# Altium schematic symbol library My_Schematic_Lib.SchLib: 50 symbols
Pins are listed as number, name and electrical type; pins without a type are passive.

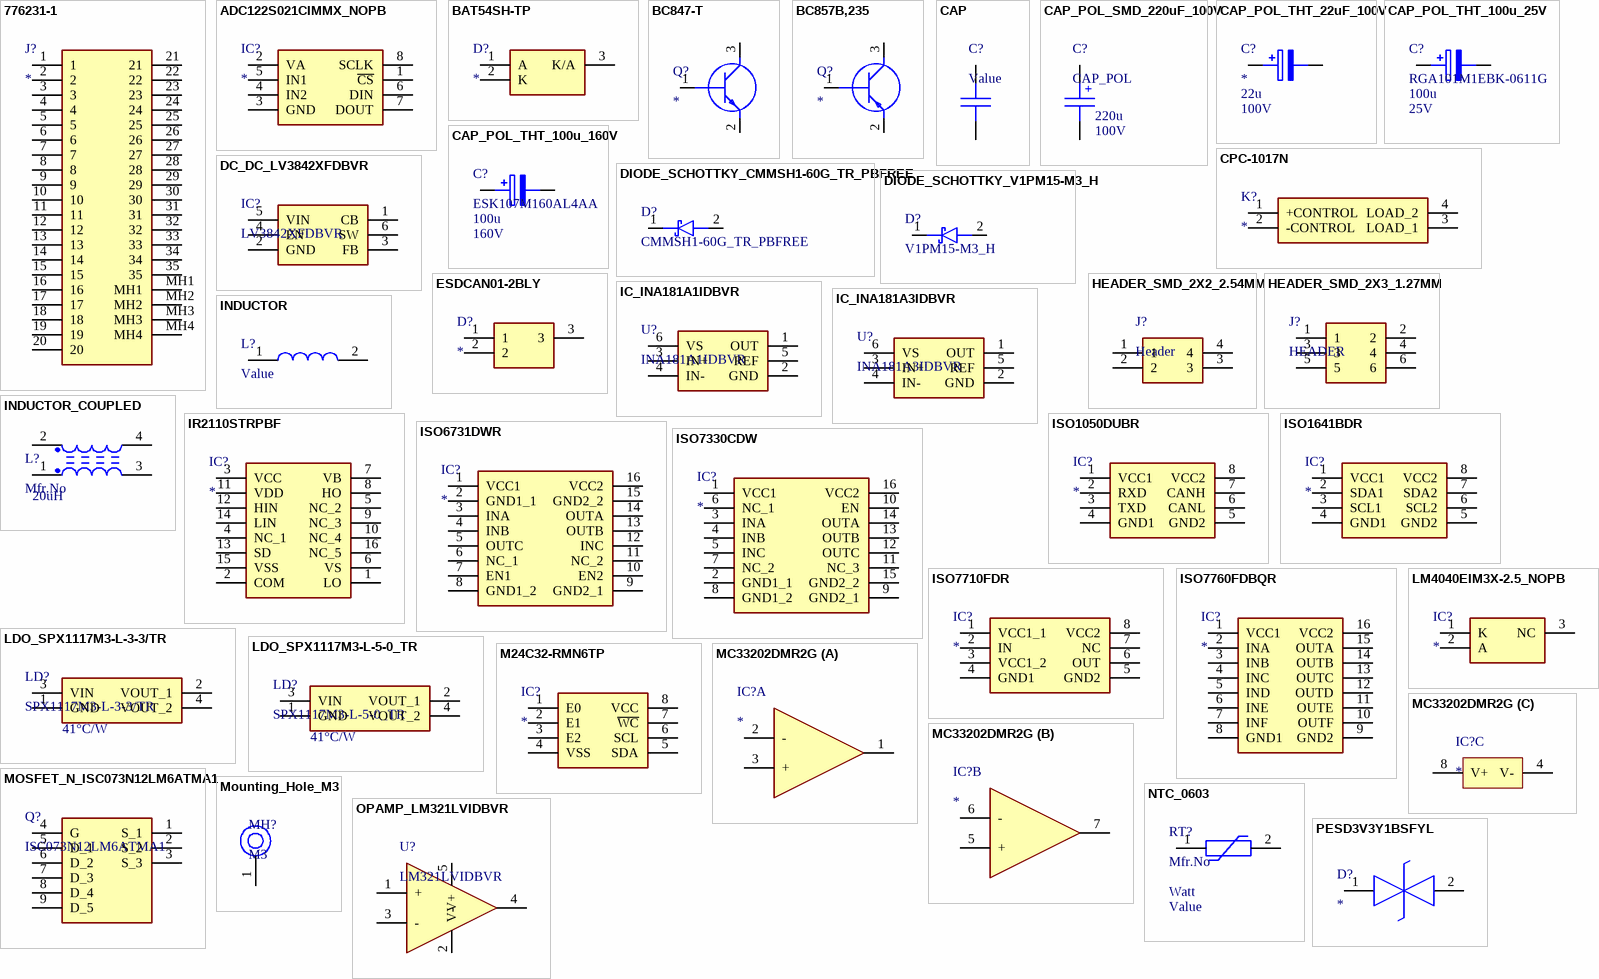
[diagram p0: symbols 776231-1 to PESD3V3Y1BSFYL]

## 776231-1
designator J?
Connector; Manufacturer_Name: TE Connectivity; Manufacturer_Part_Number: 776231-1; Datasheet Link: https://www.te.com/commerce/DocumentDelivery/DDEController?Action=srchrtrv&DocNm=1-1773979-2&DocType=Data%20Sheet&DocLang=English&PartCntxt=776231-1&DocFormat=pdf; Height: 34.25mm; Mouser Part Number: 571-776231-1; Mouser Price/Stock: https://www.mouser.co.uk/ProductDetail/TE-Connectivity/776231-1?qs=YqNA2qefETAQAJm2ankyIA%3D%3D; Arrow Part Number: 776231-1; Arrow Price/Stock: https://www.arrow.com/en/products/776231-1/te-connectivity?region=nac
footprint 7762311
pins: 1, 2, 3, 4, 5, 6, 7, 8, 9, 10, 11, 12, 13, 14, 15, 16, 17, 18, 19, 20, 21, 22, 23, 24, 25, 26, 27, 28, 29, 30, 31, 32, 33, 34, 35, MH1, MH2, MH3, MH4

## ADC122S021CIMMX_NOPB
designator IC?
Integrated Circuit; Manufacturer_Name: Texas Instruments; Manufacturer_Part_Number: ADC122S021CIMMX/NOPB; Datasheet Link: http://www.ti.com/lit/gpn/ADC122S021; Height: 1.1mm; Mouser Part Number: 926-A122S021CIMMXNPB; Mouser Price/Stock: https://www.mouser.co.uk/ProductDetail/Texas-Instruments/ADC122S021CIMMX-NOPB/?qs=7X5t%252BdzoRHB2bC7Teu8H3A%3D%3D; Arrow Part Number: ADC122S021CIMMX/NOPB; Arrow Price/Stock: https://www.arrow.com/en/products/adc122s021cimmxnopb/texas-instruments
footprint SOP65P490X110-8N
pins: 1 ~{CS}, 2 VA, 3 GND, 4 IN2, 5 IN1, 6 DIN, 7 DOUT, 8 SCLK

## BAT54SH-TP
designator D?
Schottky Diode; Manufacturer_Name: MCC; Manufacturer_Part_Number: BAT54SH-TP; Datasheet Link: https://www.mccsemi.com/pdf/Products/BAT54H-BAT54SH(SOT-23).pdf; Height: 1.25mm
footprint SOT95P237X125-3N
pins: 1 A, 2 K, 3 K/A

## BC847-T
designator Q?
Transistor BJT NPN; Manufacturer_Name: Rectron; Manufacturer_Part_Number: BC847-T; Datasheet Link: https://www.rectron.com/public/product_datasheets/bc846-bc848.pdf; Height: 1.15mm; Mouser Part Number: 583-BC847; Mouser Price/Stock: https://www.mouser.co.uk/ProductDetail/Rectron/BC847-T?qs=88VD4TDCwKCxjiqyDdAfrw%3D%3D
footprint SOT95P240X115-3N
pins: 1 B, 2 E, 3 C

## BC857B,235
designator Q?
Transistor BJT PNP; Manufacturer_Name: Nexperia; Manufacturer_Part_Number: BC857B,235; Datasheet Link: https://assets.nexperia.com/documents/data-sheet/BC856_BC857_BC858.pdf; Height: 1.1mm; Mouser Part Number: 771-BC857B235; Mouser Price/Stock: https://www.mouser.co.uk/ProductDetail/Nexperia/BC857B235?qs=me8TqzrmIYWSnmooO7Bp2g%3D%3D; Arrow Part Number: BC857B,235; Arrow Price/Stock: https://www.arrow.com/en/products/bc857b235/nexperia?region=europe
footprint SOT95P230X110-3N
pins: 1 B, 2 E, 3 C

## CAP
designator C?, comment Value
SMD Chip Capacitor
footprint C_0201
footprint C_0402
footprint C_0603
footprint C_0805
footprint C_1206
footprint C_1210
footprint C_1812
pins: 1, 2

## CAP_POL_SMD_220uF_100V
designator C?, comment CAP_POL  value 220u  Voltage: 100V
Polarized Capacitor; ComponentLink1Description: Link; ComponentLink1URL: https://www.mouser.com.tr/ProductDetail/Panasonic/ECA-2AM221B?qs=hnUcNC2tU0psbcmlzR8oQA%3D%3D
footprint C_THT_12.5X20 (Capacitor THT, P 5.00mm, D 12m,)
pins: 1, 2
text: +

## CAP_POL_THT_22uF_100V
designator C?  value 22u  Voltage: 100V
Polarized Capacitor; ComponentLink1Description: New link; ComponentLink1URL: https://www.mouser.com.tr/ProductDetail/KEMET/ESK226M100AE3AA?qs=1mbolxNpo8eF6Js%2FQEFiSw%3D%3D
footprint C_THT_6.3X11X2.5
pins: 1 +, 2 -

## CAP_POL_THT_100u_25V
designator C?, comment RGA101M1EBK-0611G  value 100u  Voltage: 25V
Aluminium Electrolytic Capacitors - Radial Leaded 25V 100uF 105C 6.3x11mm; ComponentLink1Description: Link; ComponentLink1URL: https://www.mouser.com.tr/ProductDetail/Lelon/RGA101M1EBK-0611G?qs=sGAEpiMZZMvwFf0viD3Y3ZPeeWspSkPKwMATVGPRbS8%3D
footprint C_THT_6.3X11X2.5
pins: 1 +, 2 -

## CAP_POL_THT_100u_160V
designator C?, comment ESK107M160AL4AA  value 100u  Voltage: 160V
Capacitor Polarised; ComponentLink1Description: New link; ComponentLink1URL: https://www.mouser.com.tr/ProductDetail/KEMET/ESK107M160AL4AA?qs=gt1LBUVyoHn74e7F9%2F5Ihw%3D%3D
footprint C_THT_13X25X5
pins: 1 +, 2 -

## CPC-1017N
designator K?
Relay or Contactor; Manufacturer_Name: LITTELFUSE; Manufacturer_Part_Number: CPC-1017N; Datasheet Link: http://www.ixysic.com/home/pdfs.nsf/www/CPC1017N.pdf/$file/CPC1017N.pdf; Height: 2.055mm
footprint SOP254P610X206-4N
pins: 1 +CONTROL, 2 -CONTROL, 3 LOAD_1, 4 LOAD_2

## DC_DC_LV3842XFDBVR
designator IC?, comment LV3842XFDBVR
Switching Voltage Regulators 4-V to 36-V 600-mA synchronous step-dow (FPWM)
footprint SOT23-6
pins: 1 CB (power), 2 GND (power), 3 FB, 4 EN, 5 VIN (power), 6 SW (power)

## DIODE_SCHOTTKY_CMMSH1-60G_TR_PBFREE
designator D?, comment CMMSH1-60G_TR_PBFREE
Schottky Diodes & Rectifiers; Vrm: 60V; If: 1A; Vf: 0.85A; ComponentLink1Description: New link; ComponentLink1URL: https://www.mouser.com.tr/ProductDetail/Central-Semiconductor/CMMSH1-60G-TR-PBFREE?qs=u16ybLDytRaqwQ9Jtbd3vg%3D%3D
footprint SOD-123-2
pins: 1 K, 2 A

## DIODE_SCHOTTKY_V1PM15-M3_H
designator D?, comment V1PM15-M3_H
Schottky Diode, 150V, 1A, Vf: 1.13V; Vf: 1.3V; ComponentLink1Description: New link; ComponentLink1URL: https://www.mouser.com.tr/ProductDetail/Vishay-General-Semiconductor/V1PM15-M3-H?qs=%252BdQmOuGyFcHNPmRG94B76g%3D%3D; Vrm: 150V; If: 1A
footprint DO-219AD-2
pins: 1 K, 2 A

## ESDCAN01-2BLY
designator D?
TVS Diode (Bi-directional); Manufacturer_Name: STMicroelectronics; Manufacturer_Part_Number: ESDCAN01-2BLY; Datasheet Link: https://componentsearchengine.com/Datasheets/2/ESDCAN01-2BLY.pdf; Height: 1.25mm; Mouser Part Number: 511-ESDCAN01-2BLY; Mouser Price/Stock: https://www.mouser.co.uk/ProductDetail/STMicroelectronics/ESDCAN01-2BLY?qs=Ok1pvOkw6%2FpNzC2RQnWwPA%3D%3D; Arrow Part Number: ESDCAN01-2BLY; Arrow Price/Stock: https://www.arrow.com/en/products/esdcan01-2bly/stmicroelectronics?region=nac
footprint SOT95P255X125-3N
pins: 1, 2, 3

## HEADER_SMD_2X2_2.54MM
designator J?, comment Header
footprint HEADER_MALE_SMD_2X2_2.54MM
footprint HEADER_FEMALE_SMD_2X2_2.54MM
pins: 1, 2, 3, 4

## HEADER_SMD_2X3_1.27MM
designator J?, comment HEADER
footprint HEADER_FEMALE_SMD_2X3_1.27MM
footprint HEADER_MALE_2X3_1.27MM
pins: 1, 2, 3, 4, 5, 6

## IC_INA181A1IDBVR
designator U?, comment INA181A1IDBVR
Current Sense Amplifiers, Vos: 100uV, Gain: 20V/V; ComponentLink1Description: New link; ComponentLink1URL: https://www.mouser.com.tr/ProductDetail/Texas-Instruments/INA181A1IDBVR?qs=5aG0NVq1C4wLgDhUNMFt2A%3D%3D
footprint SOT23-6
pins: 1 OUT, 2 GND (power), 3 IN+, 4 IN-, 5 REF, 6 VS (power)

## IC_INA181A3IDBVR
designator U?, comment INA181A3IDBVR
Current Sense Amplifiers, Vos: 100uV, Gain: 100V/V; ComponentLink1Description: New link; ComponentLink1URL: https://www.mouser.com.tr/ProductDetail/Texas-Instruments/INA181A3IDBVR?qs=5aG0NVq1C4xG8aOdRB7o5A%3D%3D
footprint SOT23-6
pins: 1 OUT, 2 GND (power), 3 IN+, 4 IN-, 5 REF, 6 VS (power)

## INDUCTOR
designator L?, comment Value
Inductor
footprint IND_5x5x4.5
pins: 1, 2

## INDUCTOR_COUPLED
designator L?, comment Mfr.No  Inductance: 20uH
Couıpled Inductor; Saturation Current: 1.24A; Max Current: 2.47A; Parallel Inductance: 10u; Seriers Inductance: 39.60u; ComponentLink1Description: New link; ComponentLink1URL: https://eu.mouser.com/ProductDetail/Bourns/SRF0703-100M?qs=Q2Pzc27CV9vIhByhmwt1KA%3D%3D
pins: 1, 2, 3, 4

## IR2110STRPBF
designator IC?
Integrated Circuit; Manufacturer_Name: Infineon; Manufacturer_Part_Number: IR2110STRPBF; Datasheet Link: https://www.infineon.com/cms/en/product/power/gate-driver-ics/?; Height: 2.65mm; Mouser Part Number: 942-IR2110STRPBF; Mouser Price/Stock: https://www.mouser.co.uk/ProductDetail/Infineon-Technologies/IR2110STRPBF?qs=2r01AXMCG3P4pNuJUqFzxg%3D%3D; Arrow Part Number: IR2110STRPBF; Arrow Price/Stock: https://www.arrow.com/en/products/ir2110strpbf/infineon-technologies-ag?utm_currency=USD&region=nac
footprint SOIC127P1032X265-16N
pins: 1 LO, 2 COM, 3 VCC, 4 NC_1, 5 NC_2, 6 VS, 7 VB, 8 HO, 9 NC_3, 10 NC_4, 11 VDD, 12 HIN, 13 SD, 14 LIN, 15 VSS, 16 NC_5

## ISO1050DUBR
designator IC?
Integrated Circuit; Manufacturer_Name: Texas Instruments; Manufacturer_Part_Number: ISO1050DUBR; Datasheet Link: http://www.ti.com/lit/ds/symlink/iso1050.pdf; Height: 4.85mm; Mouser Part Number: 595-ISO1050DUBR; Mouser Price/Stock: https://www.mouser.co.uk/ProductDetail/Texas-Instruments/ISO1050DUBR?qs=IK5e5L0zOXhhp9hdAolE%252BA%3D%3D; Arrow Part Number: ISO1050DUBR; Arrow Price/Stock: https://www.arrow.com/en/products/iso1050dubr/texas-instruments?region=europe
footprint SOP254P1040X485-8N
pins: 1 VCC1, 2 RXD, 3 TXD, 4 GND1, 5 GND2, 6 CANL, 7 CANH, 8 VCC2

## ISO1641BDR
designator IC?
Integrated Circuit; Manufacturer_Name: Texas Instruments; Manufacturer_Part_Number: ISO1641BDR; Datasheet Link: https://www.ti.com/lit/ds/symlink/iso1641.pdf?ts=1621351593430&ref_url=https%253A%252F%252Fwww.ti.com%252Fisolation%252Fisolated-interfaces%252Fi2c%252Fproducts.html; Height: 1.75mm; Mouser Part Number: 595-ISO1641BDR; Mouser Price/Stock: https://www.mouser.co.uk/ProductDetail/Texas-Instruments/ISO1641BDR?qs=TuK3vfAjtkURaauWK%2F5e2g%3D%3D
footprint SOIC127P600X175-8N
pins: 1 VCC1, 2 SDA1, 3 SCL1, 4 GND1, 5 GND2, 6 SCL2, 7 SDA2, 8 VCC2

## ISO6731DWR
designator IC?
Integrated Circuit; Manufacturer_Name: Texas Instruments; Manufacturer_Part_Number: ISO6731DWR; Datasheet Link: https://www.ti.com/lit/ds/symlink/iso6731.pdf?ts=1623477624400&ref_url=https%253A%252F%252Fwww.ti.com%252Fstore%252Fti%252Fen%252Fp%252Fproduct%252F%253Fp%253DISO6731DWR%2526keyMatch%253DISO6731DWR%2526tisearch%253Dsearch-everything%2526usecase%253DOPN; Height: 2.65mm; Mouser Part Number: 595-ISO6731DWR; Mouser Price/Stock: https://www.mouser.co.uk/ProductDetail/Texas-Instruments/ISO6731DWR?qs=iLbezkQI%252Bsg6BfGQOcJxyQ%3D%3D
footprint SOIC127P1030X265-16N
pins: 1 VCC1, 2 GND1_1, 3 INA, 4 INB, 5 OUTC, 6 NC_1, 7 EN1, 8 GND1_2, 9 GND2_1, 10 EN2, 11 NC_2, 12 INC, 13 OUTB, 14 OUTA, 15 GND2_2, 16 VCC2

## ISO7330CDW
designator IC?
Integrated Circuit; Manufacturer_Name: Texas Instruments; Manufacturer_Part_Number: ISO7330CDW; Datasheet Link: http://www.ti.com/lit/gpn/iso7330c; Height: 2.65mm; Mouser Part Number: 595-ISO7330CDW; Mouser Price/Stock: https://www.mouser.co.uk/ProductDetail/Texas-Instruments/ISO7330CDW/?qs=OfeFRKQgECgkB7bvj%252B895A%3D%3D; Arrow Part Number: ISO7330CDW; Arrow Price/Stock: https://www.arrow.com/en/products/iso7330cdw/texas-instruments
footprint SOIC127P1030X265-16N
pins: 1 VCC1, 2 GND1_1, 3 INA, 4 INB, 5 INC, 6 NC_1, 7 NC_2, 8 GND1_2, 9 GND2_1, 10 EN, 11 NC_3, 12 OUTC, 13 OUTB, 14 OUTA, 15 GND2_2, 16 VCC2

## ISO7710FDR
designator IC?
Integrated Circuit; Manufacturer_Name: Texas Instruments; Manufacturer_Part_Number: ISO7710FDR; Datasheet Link: http://www.ti.com/lit/gpn/iso7710; Height: 1.75mm; Mouser Part Number: 595-ISO7710FDR; Mouser Price/Stock: https://www.mouser.co.uk/ProductDetail/Texas-Instruments/ISO7710FDR?qs=0C8XhJW8e4r482bmRgamQA%3D%3D; Arrow Part Number: ISO7710FDR; Arrow Price/Stock: https://www.arrow.com/en/products/iso7710fdr/texas-instruments?region=nac
footprint SOIC127P600X175-8N
pins: 1 VCC1_1, 2 IN, 3 VCC1_2, 4 GND1, 5 GND2, 6 OUT, 7 NC, 8 VCC2

## ISO7760FDBQR
designator IC?
Integrated Circuit; Manufacturer_Name: Texas Instruments; Manufacturer_Part_Number: ISO7760FDBQR; Datasheet Link: https://www.ti.com/lit/ds/symlink/iso7760.pdf?ts=1635771024326&ref_url=https%253A%252F%252Fwww.ti.com%252Fproduct%252FISO7760; Height: 1.75mm; Mouser Part Number: 595-ISO7760FDBQR; Mouser Price/Stock: https://www.mouser.co.uk/ProductDetail/Texas-Instruments/ISO7760FDBQR?qs=rrS6PyfT74eAAfpmQeXWaw%3D%3D; Arrow Part Number: ISO7760FDBQR; Arrow Price/Stock: https://www.arrow.com/en/products/iso7760fdbqr/texas-instruments?region=nac
footprint SOP64P600X175-16N
pins: 1 VCC1, 2 INA, 3 INB, 4 INC, 5 IND, 6 INE, 7 INF, 8 GND1, 9 GND2, 10 OUTF, 11 OUTE, 12 OUTD, 13 OUTC, 14 OUTB, 15 OUTA, 16 VCC2

## LDO_SPX1117M3-L-3-3/TR
designator LD?, comment SPX1117M3-L-3-3/TR  Junction to Ambient: 41°C/W
LDO Voltage Regulators, 800mA, 3.3V Fixed Output; Vinmax: 15V; Dropout Voltage: 1.1V; ComponentLink1Description: Link; ComponentLink1URL: https://www.mouser.com.tr/ProductDetail/MaxLinear/SPX1117M3-L-3-3-TR?qs=S%2FCBhQS5rCofor8XCFP4ag%3D%3D
footprint SOT223-3
pins: 1 GND, 2 VOUT_1, 3 VIN, 4 VOUT_2

## LDO_SPX1117M3-L-5-0_TR
designator LD?, comment SPX1117M3-L-5-0_TR  Junction to Ambient: 41°C/W
LDO Voltage Regulators, 800mA, 5V Fixed Output; Vinmax: 15V; Dropout Voltage: 1.1V; ComponentLink1Description: Link; ComponentLink1URL: https://www.mouser.com.tr/ProductDetail/MaxLinear/SPX1117M3-L-5-0-TR?qs=sGAEpiMZZMuLLNXTG1MZamssjbYkpgRd0ulvD9ADRVk%3D
footprint SOT223-3
pins: 1 GND, 2 VOUT_1, 3 VIN, 4 VOUT_2

## LM4040EIM3X-2.5_NOPB
designator IC?
Integrated Circuit; Manufacturer_Name: Texas Instruments; Manufacturer_Part_Number: LM4040EIM3X-2.5/NOPB; Datasheet Link: http://www.ti.com/lit/gpn/lm4040-n; Height: 1.12mm; Mouser Part Number: 926-LM4040EIM3X25NPB; Mouser Price/Stock: https://www.mouser.co.uk/ProductDetail/Texas-Instruments/LM4040EIM3X-2.5-NOPB?qs=QbsRYf82W3ECmAFJZbZXfA%3D%3D; Arrow Part Number: LM4040EIM3X-2.5/NOPB; Arrow Price/Stock: https://www.arrow.com/en/products/lm4040eim3x-2.5nopb/texas-instruments?region=nac
footprint SOT95P237X112-3N
pins: 1 K, 2 A, 3 NC

## M24C32-RMN6TP
designator IC?
Integrated Circuit; Manufacturer_Name: STMicroelectronics; Manufacturer_Part_Number: M24C32-RMN6TP; Datasheet Link: http://www.st.com/content/ccc/resource/technical/document/datasheet/80/4e/8c/54/f2/63/4c/4a/CD00001012.pdf/files/CD00001012.pdf/jcr:content/translations/en.CD00001012.pdf; Height: 1.75mm; Mouser Part Number: 511-M24C32-RMN6TP; Mouser Price/Stock: https://www.mouser.co.uk/ProductDetail/STMicroelectronics/M24C32-RMN6TP?qs=mxjAf%2Fzt%2FiCvN2%252BVDNbw9w%3D%3D; Arrow Part Number: M24C32-RMN6TP; Arrow Price/Stock: https://www.arrow.com/en/products/m24c32-rmn6tp/stmicroelectronics?region=nac
footprint SOIC127P600X175-8N
pins: 1 E0, 2 E1, 3 E2, 4 VSS, 5 SDA, 6 SCL, 7 ~{WC}, 8 VCC

## MC33202DMR2G
designator IC?
Integrated Circuit; Manufacturer_Name: onsemi; Manufacturer_Part_Number: MC33202DMR2G; Datasheet Link: https://www.onsemi.com/pub/Collateral/MC33201-D.PDF; Height: 1.1mm; Mouser Part Number: 863-MC33202DMR2G; Mouser Price/Stock: https://www.mouser.co.uk/ProductDetail/onsemi/MC33202DMR2G?qs=dFKnUM%2FquJa76cgLejLdnw%3D%3D; Arrow Part Number: MC33202DMR2G; Arrow Price/Stock: https://www.arrow.com/en/products/mc33202dmr2g/on-semiconductor?region=nac
footprint SOP65P490X110-8N
part A pins: 1 OUTPUT_1, 2 -, 3 +
part B pins: 5 +, 6 -, 7 OUTPUT_2
part C pins: 4 V-, 8 V+

## MOSFET_N_ISC073N12LM6ATMA1
designator Q?, comment ISC073N12LM6ATMA1
N Channel MOSFET, 120V, 86A, 7.3mR; Qgate: 14.4nC; ComponentLink1Description: New link; ComponentLink1URL: https://www.mouser.com.tr/ProductDetail/Infineon-Technologies/ISC073N12LM6ATMA1?qs=amGC7iS6iy8CGAbD5A4F5Q%3D%3D; Vds: 120V; Ids: 86A; Rds(on): 7.3mR
footprint TDSON-8
pins: 1 S_1, 2 S_2, 3 S_3, 4 G, 5 D_1, 6 D_2, 7 D_3, 8 D_4, 9 D_5

## Mounting_Hole_M3
designator MH?, comment M3
M3 Mounting Hole
footprint MOUNTING_HOLE_M3
pins: 1

## NTC_0603
designator RT?, comment Mfr.No
NTC Thermistors 0603 Package; Tolerance: %; ComponentLink1Description: New link; ComponentLink1URL: *; Watt: Watt; Value: Value
footprint R_0603
pins: 1, 2

## OPAMP_LM321LVIDBVR
designator U?, comment LM321LVIDBVR
Operational Amplifiers, Single 5.5-V, 1-MHz, 3-mV Offset Voltage; ComponentLink1Description: New link; ComponentLink1URL: https://www.mouser.com.tr/ProductDetail/Texas-Instruments/LM321LVIDBVR?qs=qSfuJ%252Bfl%2Fd66sZ569ResAQ%3D%3D
footprint SOT23-5 (SOT23, 5-Leads)
pins: 1 +, 2 V-, 3 -, 4 OUT, 5 V+

## PESD3V3Y1BSFYL
designator D?
Diode ESD (Bi-directional); Manufacturer_Name: Nexperia; Manufacturer_Part_Number: PESD3V3Y1BSFYL; Datasheet Link: https://assets.nexperia.com/documents/data-sheet/PESD3V3Y1BSF.pdf; Mouser Part Number: 771-PESD3V3Y1BSFYL; Mouser Price/Stock: https://www.mouser.co.uk/ProductDetail/Nexperia/PESD3V3Y1BSFYL?qs=MLItCLRbWswJ%2F2jJIhlIxQ%3D%3D; Arrow Part Number: PESD3V3Y1BSFYL; Arrow Price/Stock: https://www.arrow.com/en/products/pesd3v3y1bsfyl/nexperia?region=asia
footprint PMEG3005AESFYL
pins: 1 K1, 2 K2

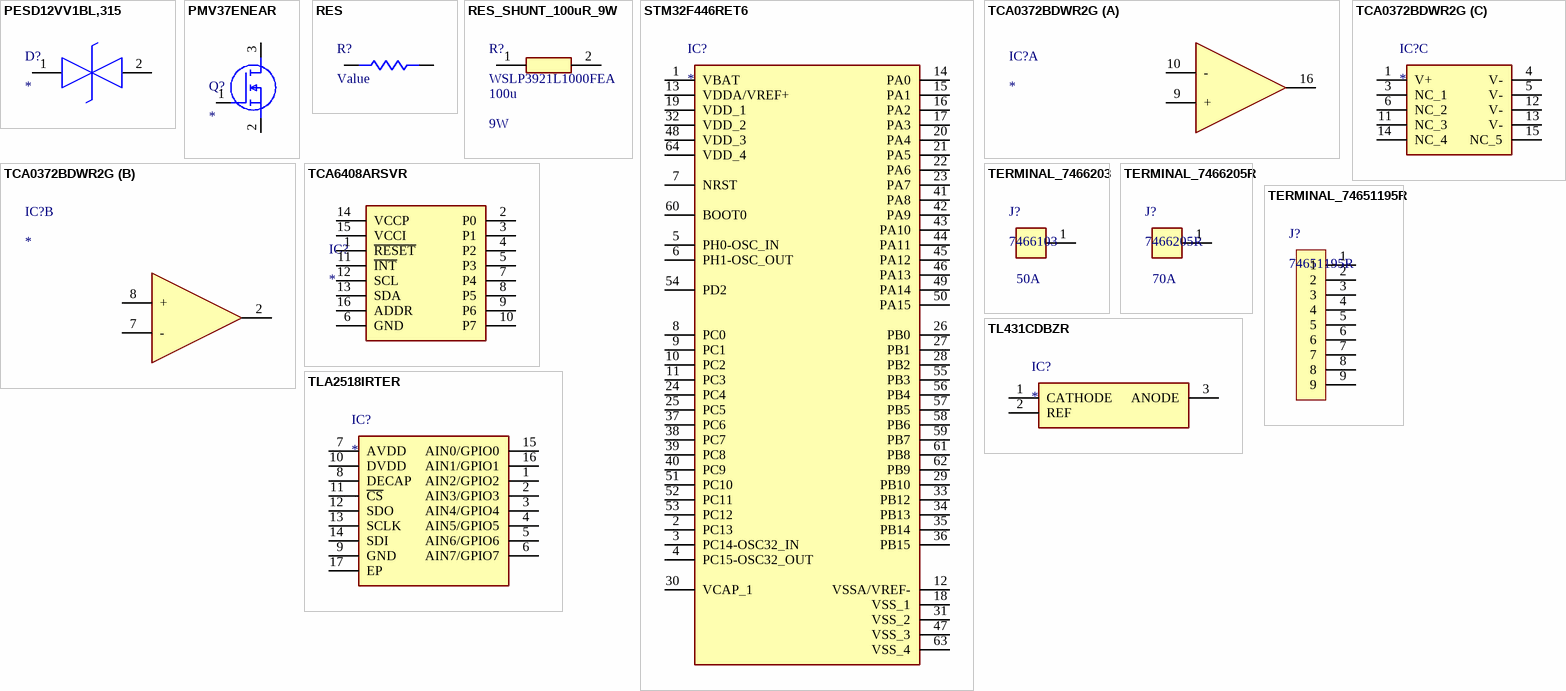
[diagram p1: symbols PESD12VV1BL,315 to TLA2518IRTER]

## PESD12VV1BL,315
designator D?
Diode ESD (Bi-directional); Manufacturer_Name: Nexperia; Manufacturer_Part_Number: PESD12VV1BL,315; Datasheet Link: https://assets.nexperia.com/documents/data-sheet/PESD12VV1BL.pdf; Height: 0mm; Mouser Part Number: 771-PESD12VV1BL,315; Mouser Price/Stock: https://www.mouser.co.uk/ProductDetail/Nexperia/PESD12VV1BL315?qs=zHGtguZFFhIuyro4byE1mg%3D%3D; Arrow Part Number: PESD12VV1BL,315; Arrow Price/Stock: https://www.arrow.com/en/products/pesd12vv1bl315/nexperia?region=nac
footprint PESD5V0S1BL315
pins: 1 K1, 2 K2

## PMV37ENEAR
designator Q?
MOSFET (N-Channel); Manufacturer_Name: Nexperia; Manufacturer_Part_Number: PMV37ENEAR; Datasheet Link: https://assets.nexperia.com/documents/data-sheet/PMV37ENEA.pdf; Height: 1.1mm; Mouser Part Number: 771-PMV37ENEAR; Mouser Price/Stock: https://www.mouser.co.uk/ProductDetail/Nexperia/PMV37ENEAR?qs=T3oQrply3y%2Frl%252BtsBfD26A%3D%3D; Arrow Part Number: PMV37ENEAR; Arrow Price/Stock: https://www.arrow.com/en/products/pmv37enear/nexperia?region=nac
footprint SOT95P230X110-3N
pins: 1 G, 2 S, 3 D

## RES
designator R?, comment Value
SMD Chip Resistor
footprint R_0402
footprint R_0603
footprint R_0805
footprint R_1206
footprint R_1812
footprint R_2010
footprint R_2512
pins: 1, 2

## RES_SHUNT_100uR_9W
designator R?, comment WSLP3921L1000FEA  value 100u  Watt: 9W
Shunt Resistor, 100uR, 9W; Tolerance: %1; ComponentLink1Description: New link; ComponentLink1URL: https://www.mouser.com.tr/ProductDetail/Vishay-Dale/WSLP3921L1000FEA?qs=TiOZkKH1s2S5b3T%252BuIp%2FVQ%3D%3D
footprint R_3921
pins: 1, 2

## STM32F446RET6
designator IC?
Integrated Circuit; Manufacturer_Name: STMicroelectronics; Manufacturer_Part_Number: STM32F446RET6; Datasheet Link: https://datasheet.datasheetarchive.com/originals/distributors/DKDS41/DSANUWW0028583.pdf; Height: 1.6mm; Mouser Part Number: 511-STM32F446RET6; Mouser Price/Stock: https://www.mouser.co.uk/ProductDetail/STMicroelectronics/STM32F446RET6?qs=Ok1pvOkw6%2FqpQsWf8F4wtQ%3D%3D; Arrow Part Number: STM32F446RET6; Arrow Price/Stock: https://www.arrow.com/en/products/stm32f446ret6/stmicroelectronics?utm_currency=USD&region=nac
footprint QFP50P1200X1200X160-64N
pins: 1 VBAT, 2 PC13, 3 PC14-OSC32_IN, 4 PC15-OSC32_OUT, 5 PH0-OSC_IN, 6 PH1-OSC_OUT, 7 NRST, 8 PC0, 9 PC1, 10 PC2, 11 PC3, 12 VSSA/VREF-, 13 VDDA/VREF+, 14 PA0, 15 PA1, 16 PA2, 17 PA3, 18 VSS_1, 19 VDD_1, 20 PA4, 21 PA5, 22 PA6, 23 PA7, 24 PC4, 25 PC5, 26 PB0, 27 PB1, 28 PB2, 29 PB10, 30 VCAP_1, 31 VSS_2, 32 VDD_2, 33 PB12, 34 PB13, 35 PB14, 36 PB15, 37 PC6, 38 PC7, 39 PC8, 40 PC9, 41 PA8, 42 PA9, 43 PA10, 44 PA11, 45 PA12, 46 PA13, 47 VSS_3, 48 VDD_3, 49 PA14, 50 PA15, 51 PC10, 52 PC11, 53 PC12, 54 PD2, 55 PB3, 56 PB4, 57 PB5, 58 PB6, 59 PB7, 60 BOOT0, 61 PB8, 62 PB9, 63 VSS_4, 64 VDD_4

## TCA0372BDWR2G
designator IC?
Integrated Circuit; Manufacturer_Name: onsemi; Manufacturer_Part_Number: TCA0372BDWR2G; Datasheet Link: https://www.onsemi.com/pub/Collateral/TCA0372-D.PDF; Height: 2.65mm; Mouser Part Number: 863-TCA0372BDWR2G; Mouser Price/Stock: https://www.mouser.co.uk/ProductDetail/onsemi/TCA0372BDWR2G?qs=xZq1yRCsb1cabHbnO0INRw%3D%3D; Arrow Part Number: TCA0372BDWR2G; Arrow Price/Stock: https://www.arrow.com/en/products/tca0372bdwr2g/on-semiconductor?region=nac
footprint SOIC127P1030X265-16N
part A pins: 9 +, 10 -, 16 OUTPUT_A
part B pins: 2 OUTPUT_B, 7 -, 8 +
part C pins: 1 V+, 3 NC_1, 4 V-, 5 V-, 6 NC_2, 11 NC_3, 12 V-, 13 V-, 14 NC_4, 15 NC_5

## TCA6408ARSVR
designator IC?
Integrated Circuit; Manufacturer_Name: Texas Instruments; Manufacturer_Part_Number: TCA6408ARSVR; Datasheet Link: http://www.ti.com/lit/gpn/tca6408a; Height: 0.55mm; Mouser Part Number: 595-TCA6408ARSVR; Mouser Price/Stock: https://www.mouser.co.uk/ProductDetail/Texas-Instruments/TCA6408ARSVR?qs=AFkNxQkJKAISZm6jGsM%252BSQ%3D%3D; Arrow Part Number: TCA6408ARSVR; Arrow Price/Stock: https://www.arrow.com/en/products/tca6408arsvr/texas-instruments?region=nac
footprint QFN40P180X260X55-16N
pins: 1 ~{RESET}, 2 P0, 3 P1, 4 P2, 5 P3, 6 GND, 7 P4, 8 P5, 9 P6, 10 P7, 11 ~{INT}, 12 SCL, 13 SDA, 14 VCCP, 15 VCCI, 16 ADDR

## TERMINAL_7466203
designator J?, comment 7466103  Current: 50A
Terminals, SMT, M3 Thread, 50A; ComponentLink1Description: New link; ComponentLink1URL: https://www.mouser.com.tr/ProductDetail/Wurth-Elektronik/7466203?qs=IfoubJuuTRb774UUJ30heA%3D%3D
footprint 7466203
footprint PAD_D8.2_H3.4
pins: 1

## TERMINAL_7466205R
designator J?, comment 7466205R  Current: 70A
Terminals, SMT, M5 Thread, 70A; ComponentLink1Description: New link; ComponentLink1URL: https://www.mouser.com.tr/ProductDetail/Wurth-Elektronik/7466205R?qs=lBTPRtX1sU8D2oI%252B7M8jdw%3D%3D
footprint 7466205R
footprint PAD_D10
pins: 1

## TERMINAL_74651195R
designator J?, comment 74651195R
Terminals M5-13mm 85A; ComponentLink1Description: New link; ComponentLink1URL: https://www.mouser.com.tr/ProductDetail/Wurth-Elektronik/74651195R?qs=lBTPRtX1sU%252BvmxiYHcgAuw%3D%3D
footprint 74651195R (Terminals M5-13mm 85A)
pins: 1, 2, 3, 4, 5, 6, 7, 8, 9

## TL431CDBZR
designator IC?
Integrated Circuit; Manufacturer_Name: Texas Instruments; Manufacturer_Part_Number: TL431CDBZR; Datasheet Link: https://www.ti.com/lit/gpn/TL431; Height: 1.12mm; Mouser Part Number: 595-TL431CDBZR; Mouser Price/Stock: https://www.mouser.co.uk/ProductDetail/Texas-Instruments/TL431CDBZR?qs=odmYgEirbwwSWqcYApoxbg%3D%3D; Arrow Part Number: TL431CDBZR; Arrow Price/Stock: https://www.arrow.com/en/products/tl431cdbzr/texas-instruments?region=nac
footprint SOT95P237X112-3N
pins: 1 CATHODE, 2 REF, 3 ANODE

## TLA2518IRTER
designator IC?
Integrated Circuit; Manufacturer_Name: Texas Instruments; Manufacturer_Part_Number: TLA2518IRTER; Datasheet Link: http://www.ti.com/lit/ds/symlink/tla2518.pdf; Height: 0.8mm; Mouser Part Number: 595-TLA2518IRTER; Mouser Price/Stock: https://www.mouser.co.uk/ProductDetail/Texas-Instruments/TLA2518IRTER?qs=XeJtXLiO41Rx1uJi657ctQ%3D%3D; Arrow Part Number: TLA2518IRTER; Arrow Price/Stock: https://www.arrow.com/en/products/tla2518irter/texas-instruments?region=europe
footprint QFN50P300X300X80-17N-D
pins: 1 AIN2/GPIO2, 2 AIN3/GPIO3, 3 AIN4/GPIO4, 4 AIN5/GPIO5, 5 AIN6/GPIO6, 6 AIN7/GPIO7, 7 AVDD, 8 DECAP, 9 GND, 10 DVDD, 11 ~{CS}, 12 SDO, 13 SCLK, 14 SDI, 15 AIN0/GPIO0, 16 AIN1/GPIO1, 17 EP